# Altium footprint library VSS-Misc.PcbLib: 1 footprints
Each footprint in its own frame and in the unit in brackets; x right, y up, seen from the top. Pads: shape width x height; smd on the part's side, far side on the other; paste and mask are expansions set on the pad; w line width, h text height; cw(c..) or ccw(c..) is an arc to the next point about the centre after c.
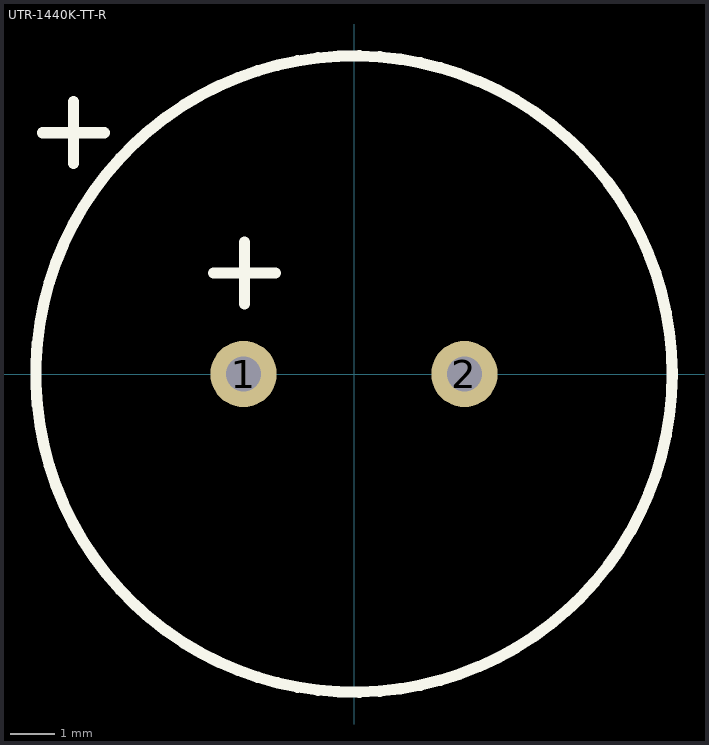
[diagram p0: the footprint, top view; thin cyan lines are the x and y axes]

## UTR-1440K-TT-R [mm]
pads (2):
  round 1.5 hole 0.8 unplated: 1(-2.5,0) 2(2.5,0)
Top Overlay:
  circle w0.254: c0,0 r7.2
  lines w0.254: -7.048,5.461 -5.651,5.461 ; -6.35,4.763 -6.35,6.159 ; -3.175,2.286 -1.778,2.286 ; -2.476,1.587 -2.476,2.984
3D body: height 0, standoff -8, extent 2.2,-0.3 2.8,0.3
3D body: height 0, standoff -11.1, extent -2.8,-0.3 -2.2,0.3
3D body: height 7, standoff 0, extent -7.169,-7.247 7.231,7.153
3D body: height 9, standoff 7, extent -6.25,-6.25 6.25,6.25